# EAGLE library part FT232RNQ-REEL (library My_Library)
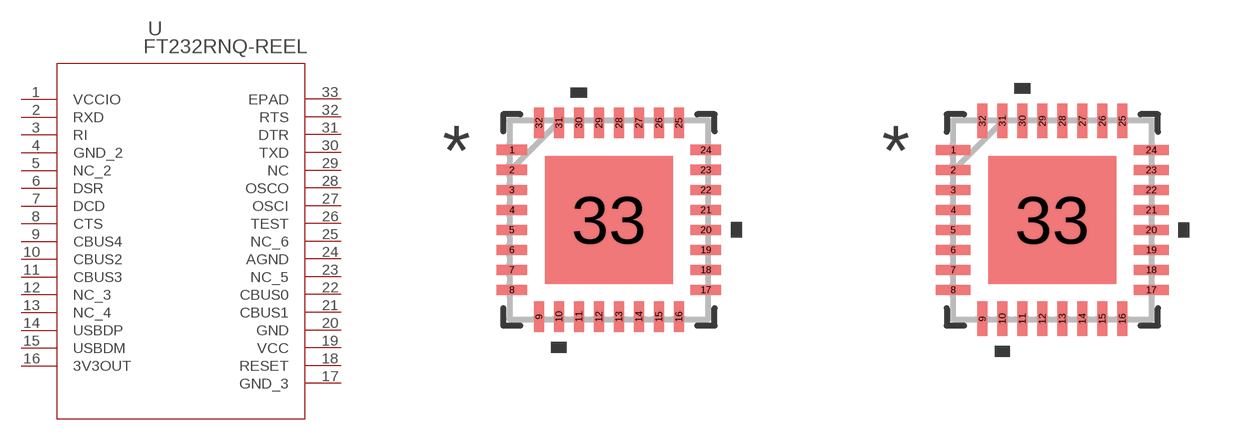
[diagram p3: symbol with the pads of QFN32_FT232_FTD; footprints QFN32_FT232_FTD, QFN32_FT232_FTD-M]

Designator prefix U

## FT232RNQ-REEL (COPYRIGHT: Copyright (C) 2024 Ultra Librarian. All rights reserved.; MANUFACTURER_PART_NUMBER: FT232RNQ-REEL; MFR_NAME: FTDI, Future Technology Devices International Ltd; TYPE: Interface)  [QFN32_FT232_FTD]
1  VCCIO  pwr
2  RXD  in
3  RI  in
4  GND_2  pas
5  NC_2  nc
6  DSR  in
7  DCD  in
8  CTS  in
9  CBUS4
10  CBUS2
11  CBUS3
12  NC_3  nc
13  NC_4  nc
14  USBDP
15  USBDM
16  3V3OUT  out
17  GND_3  pas
18  RESET  in
19  VCC  pwr
20  GND  pas
21  CBUS1
22  CBUS0
23  NC_5  nc
24  AGND  pas
25  NC_6  nc
26  TEST  in
27  OSCI  in
28  OSCO  out
29  NC  nc
30  TXD  out
31  DTR  out
32  RTS  out
33  EPAD  pas

## FT232RNQ-REELQFN32_FT232_FTD-M (COPYRIGHT: Copyright (C) 2024 Ultra Librarian. All rights reserved.; MANUFACTURER_PART_NUMBER: FT232RNQ-REEL; MFR_NAME: FTDI, Future Technology Devices International Ltd; TYPE: Interface)  [QFN32_FT232_FTD-M]
Pads as for QFN32_FT232_FTD

## FT232RNQ-REELQFN32_FT232_FTD-L (COPYRIGHT: Copyright (C) 2024 Ultra Librarian. All rights reserved.; MANUFACTURER_PART_NUMBER: FT232RNQ-REEL; MFR_NAME: FTDI, Future Technology Devices International Ltd; TYPE: Interface)  [QFN32_FT232_FTD-L]
Pads as for QFN32_FT232_FTD

## Footprint QFN32_FT232_FTD (pad centres in mm)
smd 0.762 x 0.254: 1 -2.426,1.75; 2 -2.426,1.25; 3 -2.426,0.75; 4 -2.426,0.25; 5 -2.426,-0.25; 6 -2.426,-0.75; 7 -2.426,-1.25; 8 -2.426,-1.75; 17 2.426,-1.75; 18 2.426,-1.25; 19 2.426,-0.75; 20 2.426,-0.25; 21 2.426,0.25; 22 2.426,0.75; 23 2.426,1.25; 24 2.426,1.75
smd 0.254 x 0.762: 9 -1.75,-2.426; 10 -1.25,-2.426; 11 -0.75,-2.426; 12 -0.25,-2.426; 13 0.25,-2.426; 14 0.75,-2.426; 15 1.25,-2.426; 16 1.75,-2.426; 25 1.75,2.426; 26 1.25,2.426; 27 0.75,2.426; 28 0.25,2.426; 29 -0.25,2.426; 30 -0.75,2.426; 31 -1.25,2.426; 32 -1.75,2.426
smd 3.2 x 3.2: 33 0,0

## Footprint QFN32_FT232_FTD-M (pad centres in mm)
smd 0.864 x 0.254: 1 -2.477,1.75; 2 -2.477,1.25; 3 -2.477,0.75; 4 -2.477,0.25; 5 -2.477,-0.25; 6 -2.477,-0.75; 7 -2.477,-1.25; 8 -2.477,-1.75; 17 2.477,-1.75; 18 2.477,-1.25; 19 2.477,-0.75; 20 2.477,-0.25; 21 2.477,0.25; 22 2.477,0.75; 23 2.477,1.25; 24 2.477,1.75
smd 0.254 x 0.864: 9 -1.75,-2.477; 10 -1.25,-2.477; 11 -0.75,-2.477; 12 -0.25,-2.477; 13 0.25,-2.477; 14 0.75,-2.477; 15 1.25,-2.477; 16 1.75,-2.477; 25 1.75,2.477; 26 1.25,2.477; 27 0.75,2.477; 28 0.25,2.477; 29 -0.25,2.477; 30 -0.75,2.477; 31 -1.25,2.477; 32 -1.75,2.477
smd 3.2 x 3.2: 33 0,0

## Footprint QFN32_FT232_FTD-L (pad centres in mm)
smd 0.66 x 0.254: 1 -2.375,1.75; 2 -2.375,1.25; 3 -2.375,0.75; 4 -2.375,0.25; 5 -2.375,-0.25; 6 -2.375,-0.75; 7 -2.375,-1.25; 8 -2.375,-1.75; 17 2.375,-1.75; 18 2.375,-1.25; 19 2.375,-0.75; 20 2.375,-0.25; 21 2.375,0.25; 22 2.375,0.75; 23 2.375,1.25; 24 2.375,1.75
smd 0.254 x 0.66: 9 -1.75,-2.375; 10 -1.25,-2.375; 11 -0.75,-2.375; 12 -0.25,-2.375; 13 0.25,-2.375; 14 0.75,-2.375; 15 1.25,-2.375; 16 1.75,-2.375; 25 1.75,2.375; 26 1.25,2.375; 27 0.75,2.375; 28 0.25,2.375; 29 -0.25,2.375; 30 -0.75,2.375; 31 -1.25,2.375; 32 -1.75,2.375
smd 3.2 x 3.2: 33 0,0